# Altium footprint library CONN_PWR.PcbLib: 33 footprints (part 3 of 3)
Each footprint in its own frame and in the unit in brackets; x right, y up, seen from the top. Pads: shape width x height; smd on the part's side, far side on the other; paste and mask are expansions set on the pad; w line width, h text height; cw(c..) or ccw(c..) is an arc to the next point about the centre after c.
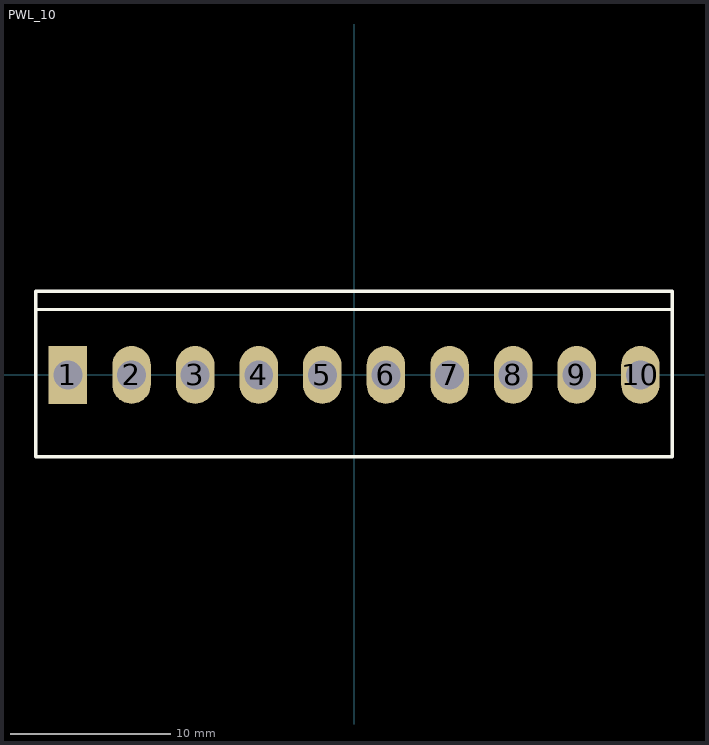
[diagram p2: the footprint, top view; thin cyan lines are the x and y axes]

## PWL_10 [mm] "Connector; Header; 10 Position"
height 0.001
pads (10):
  rect 2.4x3.6 hole 1.8: 1(-17.82,0)
  oval 2.4x3.6 hole 1.8: 2(-13.86,0) 3(-9.9,0) 4(-5.94,0) 5(-1.98,0) 6(1.98,0) 7(5.94,0) 8(9.9,0) 9(13.86,0) 10(17.82,0)
Top Overlay:
  lines w0.2: -19.82,4.064 19.8,4.064 ; -19.82,-5.1 19.8,-5.1 19.8,5.207 -19.82,5.207 -19.82,-5.1
3D body "PWL-10.stp": height 13.5, standoff -4, extent -19.8,-5 19.8,5